# Altium footprint library Wurth_Elektronik_Passive_rev16a.PCBLIB: 810 footprints (part 13 of 51)
Each footprint in its own frame and in the unit in brackets; x right, y up, seen from the top. Pads: shape width x height; smd on the part's side, far side on the other; paste and mask are expansions set on the pad; w line width, h text height; cw(c..) or ccw(c..) is an arc to the next point about the centre after c.
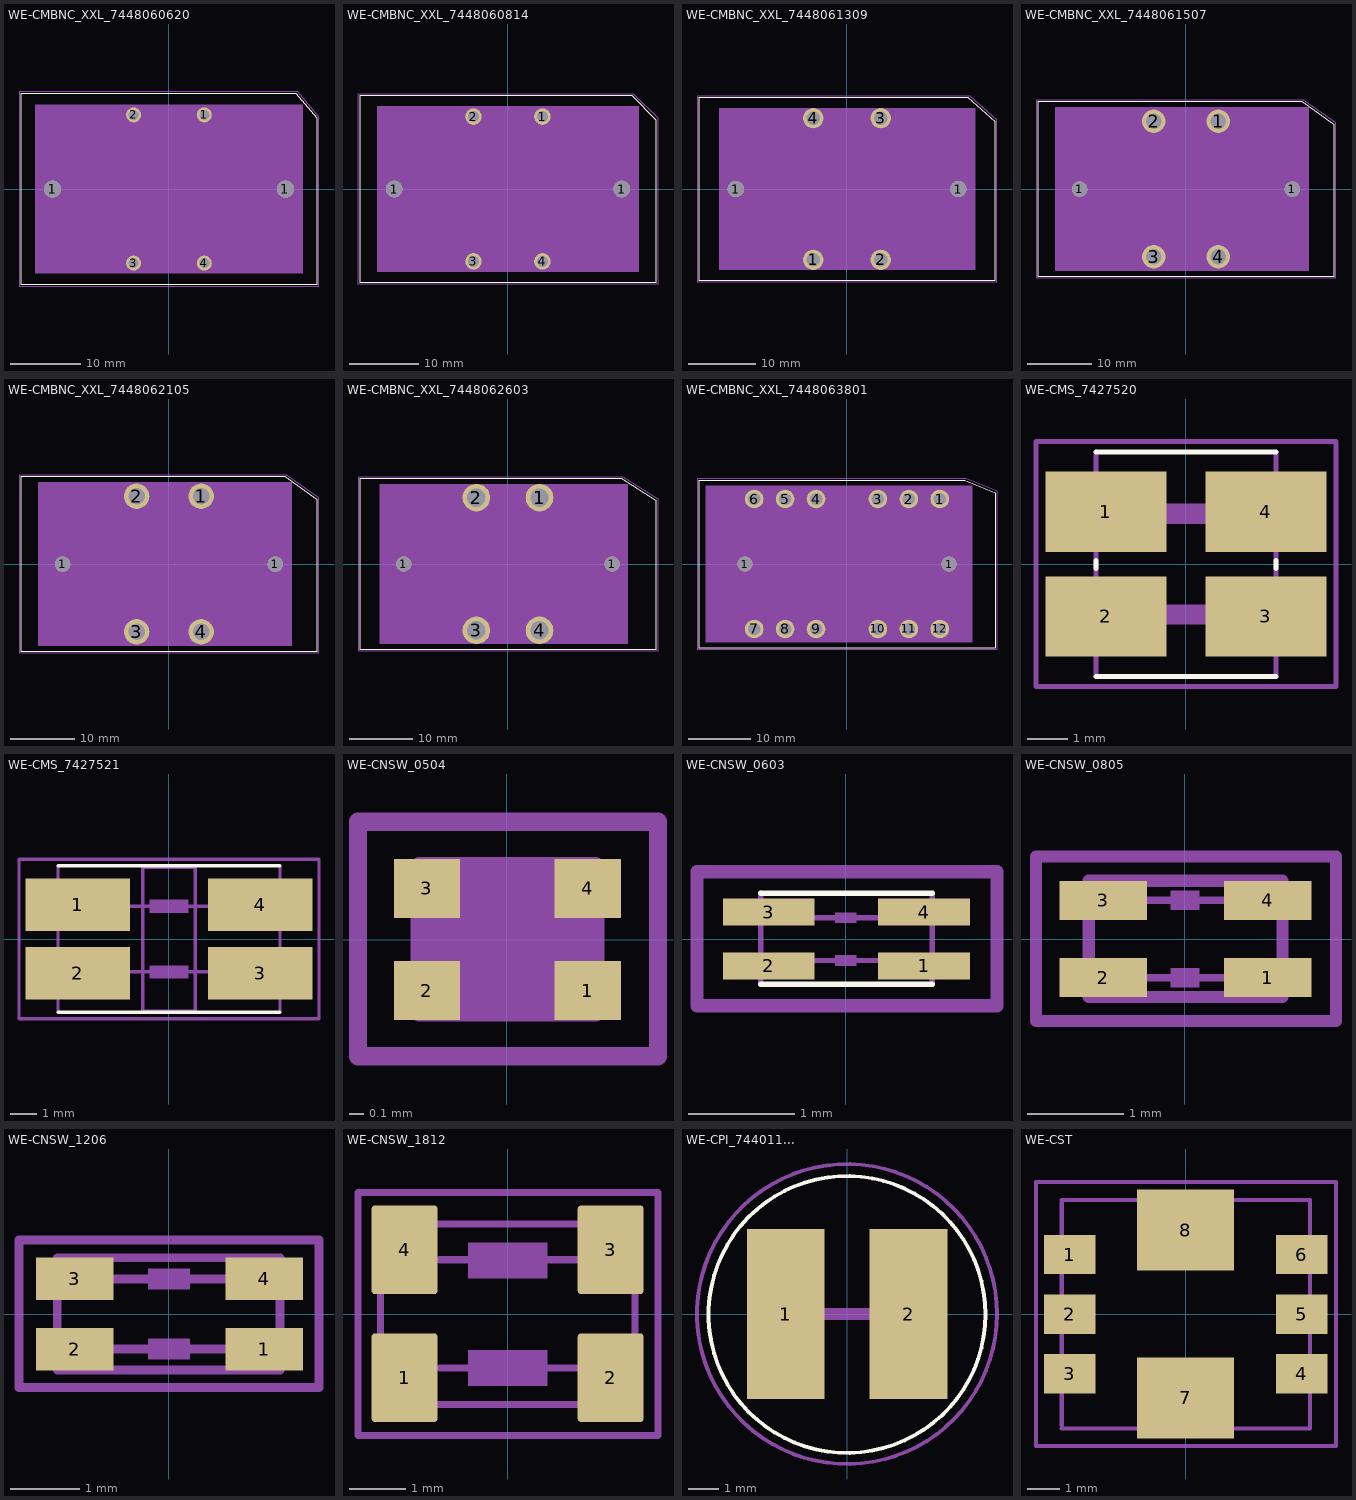
[diagram p12: the footprints below, top view; thin cyan lines are the x and y axes]

## WE-CMBNC_XXL_7448060620 [mil]
pads (6):
  round 95 hole 95: 1(-649.61,0) 1(650,0)
  round 84 hole 56: 1(197,414) 2(-196.85,414) 3(-196.85,-413.39) 4(197,-413.39)
Top Overlay:
  lines w5: -826.77,-531.5 -826.77,532 709,532 827,394 827,-531.5 -826.77,-531.5
Mechanical 2:
  text ">NAME" at -868.11,626 h77.5
Mechanical 4:
  text ">VALUE" at -837.8,-634.65 h77.5
Mechanical 10:
  rectangle: -748.03,-472.44 749,473
Mechanical 27:
  lines w5: -836.61,-541.34 -836.61,542 719,542 837,404 837,-541.34 -836.61,-541.34

## WE-CMBNC_XXL_7448060814 [mil]
pads (6):
  round 95 hole 95: 1(-649.61,0) 1(650,0)
  round 94.5 hole 63: 1(197,414) 2(-196.85,414) 3(-196.85,-413.39) 4(197,-413.39)
Top Overlay:
  lines w5: -846.46,-531.5 -846.46,532 709,532 847,394 847,-531.5 -846.46,-531.5
Mechanical 2:
  text ">NAME" at -868.11,626 h77.5
Mechanical 4:
  text ">VALUE" at -837.8,-634.65 h77.5
Mechanical 10:
  rectangle: -748.03,-472.44 749,473
Mechanical 27:
  lines w5: -856.3,-541.34 -856.3,542 719,542 857,404 857,-541.34 -856.3,-541.34

## WE-CMBNC_XXL_7448061309 [mil]
pads (6):
  round 95 hole 95: 1(-649.61,0) 1(650,0)
  round 118.5 hole 79: 1(-196.85,-413.39) 2(197,-413.39) 3(197,414) 4(-196.85,414)
Top Overlay:
  lines w5: -866.14,-531.5 -866.14,532 709,532 867,394 867,-531.5 -866.14,-531.5
Mechanical 2:
  text ">NAME" at -868.11,626 h77.5
Mechanical 4:
  text ">VALUE" at -837.8,-634.65 h77.5
Mechanical 10:
  rectangle: -748.03,-472.44 749,473
Mechanical 27:
  lines w5: -875.98,-541.34 -875.98,542 719,542 876,404 876,-541.34 -875.98,-541.34

## WE-CMBNC_XXL_7448061507 [mil]
pads (6):
  round 95 hole 95: 1(-649.61,0) 1(650,0)
  round 142.5 hole 95: 1(197,414) 2(-196.85,414) 3(-196.85,-413.39) 4(197,-413.39)
Top Overlay:
  lines w5: -905.51,-531.5 -905.51,532 709,532 906,394 906,-531.5 -905.51,-531.5
Mechanical 2:
  text ">NAME" at -868.11,626 h77.5
Mechanical 4:
  text ">VALUE" at -837.8,-634.65 h77.5
Mechanical 10:
  rectangle: -800,-500 750,500
Mechanical 27:
  lines w5: -915.35,-541.34 -915.35,542 719,542 916,404 916,-541.34 -915.35,-541.34

## WE-CMBNC_XXL_7448062105 [mil]
pads (6):
  round 95 hole 95: 1(-649.61,0) 1(650,0)
  round 154.5 hole 103: 1(197,414) 2(-196.85,414) 3(-196.85,-413.39) 4(197,-413.39)
Top Overlay:
  lines w5: -905.51,-531.5 -905.51,532 709,532 906,394 906,-531.5 -905.51,-531.5
Mechanical 2:
  text ">NAME" at -868.11,626 h77.5
Mechanical 4:
  text ">VALUE" at -837.8,-634.65 h77.5
Mechanical 10:
  rectangle: -800,-500 750,500
Mechanical 27:
  lines w5: -915.35,-541.34 -915.35,542 719,542 916,404 916,-541.34 -915.35,-541.34

## WE-CMBNC_XXL_7448062603 [mil]
pads (6):
  round 95 hole 95: 1(-649.61,0) 1(650,0)
  round 172.5 hole 115: 1(197,414) 2(-196.85,414) 3(-196.85,-413.39) 4(197,-413.39)
Top Overlay:
  lines w5: -925.2,-531.5 -925.2,532 709,532 926,394 926,-531.5 -925.2,-531.5
Mechanical 2:
  text ">NAME" at -868.11,626 h77.5
Mechanical 4:
  text ">VALUE" at -837.8,-634.65 h77.5
Mechanical 10:
  rectangle: -800,-500 750,500
Mechanical 27:
  lines w5: -935.04,-541.34 -935.04,542 719,542 936,404 936,-541.34 -935.04,-541.34

## WE-CMBNC_XXL_7448063801 [mil]
pads (14):
  round 95 hole 95: 1(-649.61,0) 1(650,0)
  round 118.5 hole 79: 1(591,414) 2(394,414) 3(197,414) 4(-196.85,414) 5(-393.7,414) 6(-590.55,414) 7(-590.55,-413.39) 8(-393.7,-413.39) 9(-196.85,-413.39) 10(197,-413.39) 11(394,-413.39) 12(591,-413.39)
Top Overlay:
  lines w5: -944.88,-531.5 -944.88,532 749,532 945,453 945,-531.5 -944.88,-531.5
Mechanical 2:
  text ">NAME" at -918.11,576 h77.5
Mechanical 4:
  text ">VALUE" at -937.8,-634.65 h77.5
Mechanical 10:
  rectangle: -900,-500 800,500
Mechanical 27:
  lines w5: -954.72,-541.34 -954.72,542 758,542 955,463 955,-541.34 -954.72,-541.34

## WE-CMS_7427520 [mil]
pads (4):
  rect 119x79 smd: 1(-78.74,52) 2(-78.74,-51.18) 3(79,-51.18) 4(79,52)
Top Overlay:
  lines w5: -88.58,-110.24 89,-110.24 ; -88.58,-3.94 -88.58,4 ; -88.58,111 89,111 ; 89,-3.94 89,4
Mechanical 2:
  text ">NAME" at -150,150 h77.5
Mechanical 4:
  text ">VALUE" at -150,-200 h77.5
Mechanical 16:
  rectangle: -29.53,40 30,60
  rectangle: -29.53,-59.06 30,-39.37
  lines w5: -88.58,-110.24 -88.58,111 ; -57.48,-49.21 58,-49.21 ; -57.48,50 58,50 ; 89,-110.24 89,111
Mechanical 27:
  lines w5: -147.64,-120.08 -147.64,121 148,121 148,-120.08 -147.64,-120.08

## WE-CMS_7427521 [mil]
pads (4):
  rect 158x79 smd: 1(-137.8,52) 2(-137.8,-51.18) 3(138,-51.18) 4(138,52)
Top Overlay:
  lines w5: -167.32,-110.24 168,-110.24 ; -167.32,111 168,111
Mechanical 2:
  text ">NAME" at -169.69,131 h77.5
Mechanical 4:
  text ">VALUE" at -169.69,-180.12 h77.5
Mechanical 10:
  lines w5: -39.37,-108.27 -39.37,109 40,109 40,-108.27 -39.37,-108.27
Mechanical 16:
  rectangle: -29.53,40 30,60
  rectangle: -29.53,-59.06 30,-39.37
  lines w5: -167.32,-110.24 -167.32,111 ; -157.48,-49.21 158,-49.21 ; -157.48,50 158,50 ; 168,-110.24 168,111
Mechanical 27:
  lines w5: -226.38,-120.08 -226.38,121 227,121 227,-120.08 -226.38,-120.08

## WE-CNSW_0504 [mil]
pads (4):
  rect 18x16 smd: 1(22,-13.78) 2(-21.65,-13.78) 3(-21.65,14) 4(22,14)
Mechanical 2:
  text ">NAME" at -47.24,48 h77.5
Mechanical 4:
  text ">VALUE" at -47.24,-94.49 h77.5
Mechanical 10:
  rectangle: -23.62,-19.68 24,20
Mechanical 16:
  lines w5: -23.62,-19.68 -23.62,20 24,20 24,-19.68 -23.62,-19.68
Mechanical 27:
  lines w5: -40.35,-31.5 -40.35,32 41,32 41,-31.5 -40.35,-31.5

## WE-CNSW_0603 [mil]
pads (4):
  rect 34x10 smd: 1(29,-9.84) 2(-28.54,-9.84) 3(-28.54,10) 4(29,10)
Top Overlay:
  lines w2: -31.5,-16.73 32,-16.73 ; -31.5,17 32,17
Mechanical 2:
  text ">NAME" at 72,-43.75 h77.5
Mechanical 4:
  text ">VALUE" at 72,108 h77.5
Mechanical 16:
  region: 3.95,-9.86 3.95,-5.89 -3.92,-5.89 -3.92,-9.86
  region: 4.02,6.02 4.02,9.98 -3.98,9.98 -3.98,6.02
  lines w2: -31.5,-16.73 -31.5,17 ; -17.72,-7.87 18,-7.87 ; -17.72,8 18,8 ; 32,-16.73 32,17
Mechanical 27:
  lines w5: -55.12,-24.61 56,-24.61 56,25 -55.12,25 -55.12,-24.61

## WE-CNSW_0805 [mil]
pads (4):
  rect 36x16 smd: 1(34,-15.75) 2(-33.46,-15.75) 3(-33.46,16) 4(34,16)
Mechanical 2:
  text ">NAME" at 61,-46.11 h77.5
Mechanical 4:
  text ">VALUE" at 61,106 h77.5
Mechanical 16:
  rectangle: -5.91,12 6,20
  rectangle: -5.91,-19.68 6,-11.81
  lines w3: -33.46,-15.75 34,-15.75 ; -33.46,16 34,16
  lines w5: -39.37,-23.62 40,-23.62 40,24 -39.37,24 -39.37,-23.62
Mechanical 27:
  lines w5: -61.02,-33.46 62,-33.46 62,34 -61.02,34 -61.02,-33.46

## WE-CNSW_1206 [mil]
pads (4):
  rect 44x24 smd: 1(54,-19.68) 2(-53.15,-19.68) 3(-53.15,20) 4(54,20)
Mechanical 2:
  text ">NAME" at -62.5,-114.37 h77.5
Mechanical 4:
  text ">VALUE" at -62.5,90 h77.5
Mechanical 16:
  rectangle: -11.81,14 12,26
  rectangle: -11.81,-25.59 12,-13.78
  lines w5: -53.15,-19.68 54,-19.68 ; -53.15,20 54,20 ; -62.99,-31.5 -62.99,32 63,32 63,-31.5 -62.99,-31.5
Mechanical 27:
  lines w5: -84.65,-41.34 85,-41.34 85,42 -84.65,42 -84.65,-41.34

## WE-CNSW_1812 [mil]
pads (4):
  rrect10% 46x62 smd: 1(-71.85,-44.29) 2(72,-44.29) 3(72,45) 4(-71.85,45)
Mechanical 2:
  text ">NAME" at 100,-100 h77.5
Mechanical 4:
  text ">VALUE" at 100,150 h77.5
Mechanical 16:
  region: 28,-25 -27.5,-25 -27.5,-50 28,-50
  region: 28,50 -27.5,50 -27.5,25 28,25
  lines w5: -47.5,-37.5 48,-37.5 ; -47.5,38 48,38 ; -88.58,-62.99 -88.58,63 89,63 89,-62.99 -88.58,-62.99
Mechanical 27:
  lines w5: -104.33,-84.65 -104.33,85 105,85 105,-84.65 -104.33,-84.65

## WE-CPI_744011... [mil]
pads (2):
  rect 101x221 smd: 1(-79.72,0) 2(80,0)
Top Overlay:
  circle w5: c0,-0.61 r180
Mechanical 2:
  text ">NAME" at -179.13,194 h86.8
Mechanical 4:
  text ">VALUE" at -179.13,-253.94 h86.8
Mechanical 16:
  lines w16: -79.72,0 80,0
Mechanical 27:
  circle w5: c0,0 r195

## WE-CST [mil]
pads (8):
  rect 63x48 smd: 1(-141.73,73) 2(-141.73,0) 3(-141.73,-72.83) 4(142,-72.83) 5(142,0) 6(142,73)
  rect 119x99 smd: 7(0,-102.36) 8(0,103)
Mechanical 2:
  text ">NAME" at -157.48,197 h77.5
Mechanical 4:
  text ">VALUE" at -157.48,-236.22 h77.5
Mechanical 16:
  lines w5: -151.57,-139.76 152,-139.76 ; -151.57,-135.83 -151.57,136 ; -151.57,140 152,140 ; 152,-137.8 152,138
Mechanical 27:
  lines w5: -183.07,-161.42 -183.07,162 184,162 184,-161.42 -183.07,-161.42